# EAGLE library part LMR14203 (library SparkFun-IC-Power)
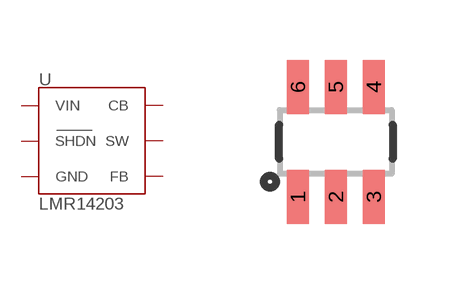
[diagram p6: symbol with the pads of SOT23-6; footprint SOT23-6]

Designator prefix U

## LMR14203 (PROD_ID: IC-13918)  [SOT23-6]
1  CB  in
2  GND  pwr
3  FB  in
4  SHDN  in
5  VIN  pwr
6  SW  pwr

## Footprint SOT23-6 (pad centres in mm)
SOT23 (6 pin) Mechanical Layout Landing Pad: 0.55mm X 1.395mm Landing Pad Pitch: 0.95mm 2.7mm vertical distance between pads
smd 0.55 x 1.35: 1 -0.95,-1.375; 2 0,-1.375; 3 0.95,-1.375; 4 0.95,1.375; 5 0,1.375; 6 -0.95,1.375